# Altium footprint library st-microelectronics.PCBLIB: 49 footprints (part 3 of 4)
Each footprint in its own frame and in the unit in brackets; x right, y up, seen from the top. Pads: shape width x height; smd on the part's side, far side on the other; paste and mask are expansions set on the pad; w line width, h text height; cw(c..) or ccw(c..) is an arc to the next point about the centre after c.
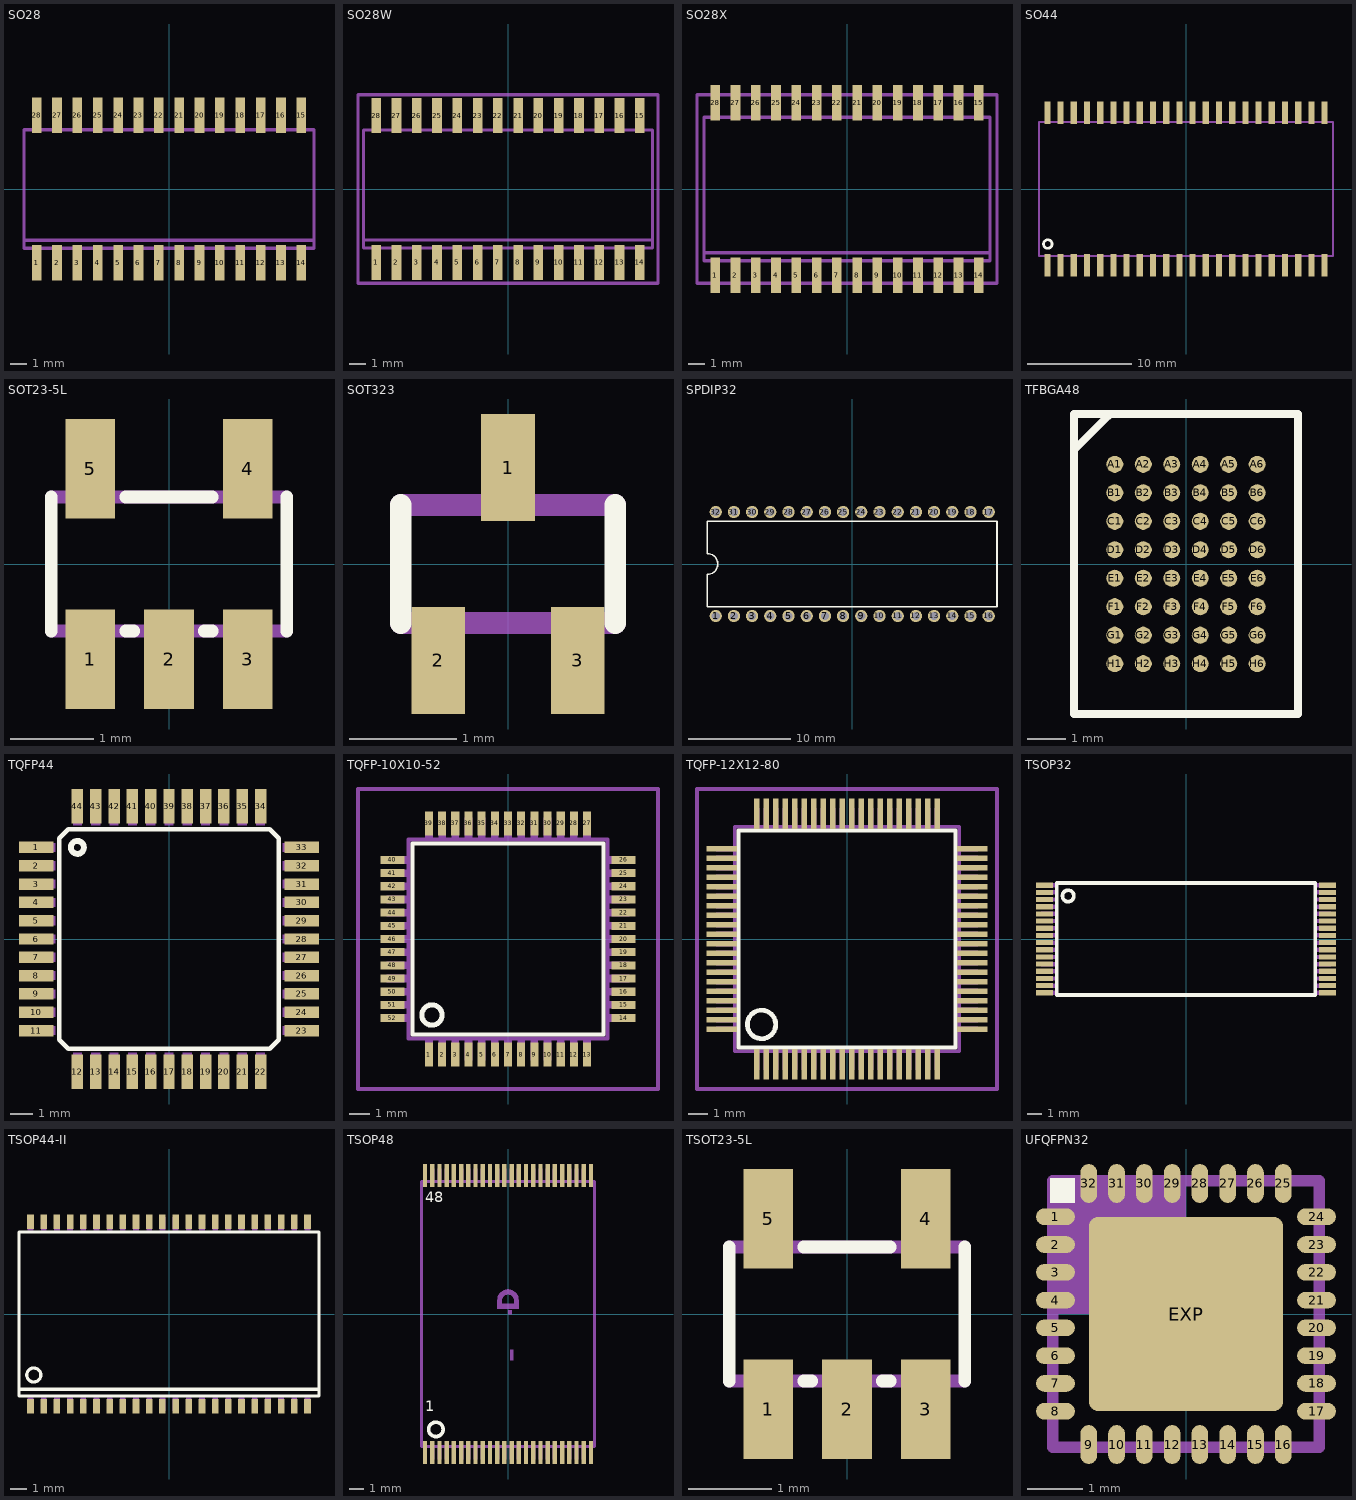
[diagram p2: the footprints below, top view; thin cyan lines are the x and y axes]

## SO28 [mil]
pads (28):
  rect 23.62x86.61 smd: 1(-325,-181.1) 2(-275,-181.1) 3(-225,-181.1) 4(-175,-181.1) 5(-125,-181.1) 6(-75,-181.1) 7(-25,-181.1) 8(25,-181.1) 9(75,-181.1) 10(125,-181.1) 11(175,-181.1) 12(225,-181.1) 13(275,-181.1) 14(325,-181.1) 15(325,181.1) 16(275,181.1) 17(225,181.1) 18(175,181.1) 19(125,181.1) 20(75,181.1) 21(25,181.1) 22(-25,181.1) 23(-75,181.1) 24(-125,181.1) 25(-175,181.1) 26(-225,181.1) 27(-275,181.1) 28(-325,181.1)
Mechanical 16:
  rectangle: -334.65,-209.45 -315.35,-149.61
  rectangle: -284.65,-209.45 -265.35,-149.61
  rectangle: -234.65,-209.45 -215.35,-149.61
  rectangle: -184.65,-209.45 -165.35,-149.61
  rectangle: -134.65,-209.45 -115.35,-149.61
  rectangle: -84.65,-209.45 -65.35,-149.61
  rectangle: -34.65,-209.45 -15.35,-149.61
  rectangle: 15.35,-209.45 34.65,-149.61
  rectangle: 65.35,-209.45 84.65,-149.61
  rectangle: 115.35,-209.45 134.65,-149.61
  rectangle: 165.35,-209.45 184.65,-149.61
  rectangle: 215.35,-209.45 234.65,-149.61
  rectangle: 265.35,-209.45 284.65,-149.61
  rectangle: 315.35,-209.45 334.65,-149.61
  rectangle: 315.35,149.61 334.65,209.45
  rectangle: 265.35,149.61 284.65,209.45
  rectangle: 215.35,149.61 234.65,209.45
  rectangle: 165.35,149.61 184.65,209.45
  rectangle: 115.35,149.61 134.65,209.45
  rectangle: 65.35,149.61 84.65,209.45
  rectangle: 15.35,149.61 34.65,209.45
  rectangle: -34.65,149.61 -15.35,209.45
  rectangle: -84.65,149.61 -65.35,209.45
  rectangle: -134.65,149.61 -115.35,209.45
  rectangle: -184.65,149.61 -165.35,209.45
  rectangle: -234.65,149.61 -215.35,209.45
  rectangle: -284.65,149.61 -265.35,209.45
  rectangle: -334.65,149.61 -315.35,209.45
  lines w8: -356.3,-125.98 -356.3,-145.67 356.3,-145.67 356.3,-125.98 ; -356.3,-125.98 -356.3,145.67 356.3,145.67 356.3,-125.98 ; -356.3,-125.98 356.3,-125.98

## SO28W [mil]
pads (28):
  rect 23.62x86.61 smd: 1(-325,-181.1) 2(-275,-181.1) 3(-225,-181.1) 4(-175,-181.1) 5(-125,-181.1) 6(-75,-181.1) 7(-25,-181.1) 8(25,-181.1) 9(75,-181.1) 10(125,-181.1) 11(175,-181.1) 12(225,-181.1) 13(275,-181.1) 14(325,-181.1) 15(325,181.1) 16(275,181.1) 17(225,181.1) 18(175,181.1) 19(125,181.1) 20(75,181.1) 21(25,181.1) 22(-25,181.1) 23(-75,181.1) 24(-125,181.1) 25(-175,181.1) 26(-225,181.1) 27(-275,181.1) 28(-325,181.1)
Mechanical 16:
  rectangle: -334.65,-209.45 -315.35,-149.61
  rectangle: -284.65,-209.45 -265.35,-149.61
  rectangle: -234.65,-209.45 -215.35,-149.61
  rectangle: -184.65,-209.45 -165.35,-149.61
  rectangle: -134.65,-209.45 -115.35,-149.61
  rectangle: -84.65,-209.45 -65.35,-149.61
  rectangle: -34.65,-209.45 -15.35,-149.61
  rectangle: 15.35,-209.45 34.65,-149.61
  rectangle: 65.35,-209.45 84.65,-149.61
  rectangle: 115.35,-209.45 134.65,-149.61
  rectangle: 165.35,-209.45 184.65,-149.61
  rectangle: 215.35,-209.45 234.65,-149.61
  rectangle: 265.35,-209.45 284.65,-149.61
  rectangle: 315.35,-209.45 334.65,-149.61
  rectangle: 315.35,149.61 334.65,209.45
  rectangle: 265.35,149.61 284.65,209.45
  rectangle: 215.35,149.61 234.65,209.45
  rectangle: 165.35,149.61 184.65,209.45
  rectangle: 115.35,149.61 134.65,209.45
  rectangle: 65.35,149.61 84.65,209.45
  rectangle: 15.35,149.61 34.65,209.45
  rectangle: -34.65,149.61 -15.35,209.45
  rectangle: -84.65,149.61 -65.35,209.45
  rectangle: -134.65,149.61 -115.35,209.45
  rectangle: -184.65,149.61 -165.35,209.45
  rectangle: -234.65,149.61 -215.35,209.45
  rectangle: -284.65,149.61 -265.35,209.45
  rectangle: -334.65,149.61 -315.35,209.45
  lines w8: -356.3,-125.98 -356.3,-145.67 356.3,-145.67 356.3,-125.98 ; -356.3,-125.98 -356.3,145.67 356.3,145.67 356.3,-125.98 ; -356.3,-125.98 356.3,-125.98
Mechanical 27:
  lines w7.87: -369.88,-232.28 369.88,-232.28 369.88,232.28 -369.88,232.28 -369.88,-232.28

## SO28X [mil]
pads (28):
  rect 23.62x86.61 smd: 1(-325,-212.6) 2(-275,-212.6) 3(-225,-212.6) 4(-175,-212.6) 5(-125,-212.6) 6(-75,-212.6) 7(-25,-212.6) 8(25,-212.6) 9(75,-212.6) 10(125,-212.6) 11(175,-212.6) 12(225,-212.6) 13(275,-212.6) 14(325,-212.6) 15(325,212.6) 16(275,212.6) 17(225,212.6) 18(175,212.6) 19(125,212.6) 20(75,212.6) 21(25,212.6) 22(-25,212.6) 23(-75,212.6) 24(-125,212.6) 25(-175,212.6) 26(-225,212.6) 27(-275,212.6) 28(-325,212.6)
Mechanical 16:
  rectangle: -334.65,-240.94 -315.35,-181.1
  rectangle: -284.65,-240.94 -265.35,-181.1
  rectangle: -234.65,-240.94 -215.35,-181.1
  rectangle: -184.65,-240.94 -165.35,-181.1
  rectangle: -134.65,-240.94 -115.35,-181.1
  rectangle: -84.65,-240.94 -65.35,-181.1
  rectangle: -34.65,-240.94 -15.35,-181.1
  rectangle: 15.35,-240.94 34.65,-181.1
  rectangle: 65.35,-240.94 84.65,-181.1
  rectangle: 115.35,-240.94 134.65,-181.1
  rectangle: 165.35,-240.94 184.65,-181.1
  rectangle: 215.35,-240.94 234.65,-181.1
  rectangle: 265.35,-240.94 284.65,-181.1
  rectangle: 315.35,-240.94 334.65,-181.1
  rectangle: 315.35,181.1 334.65,240.94
  rectangle: 265.35,181.1 284.65,240.94
  rectangle: 215.35,181.1 234.65,240.94
  rectangle: 165.35,181.1 184.65,240.94
  rectangle: 115.35,181.1 134.65,240.94
  rectangle: 65.35,181.1 84.65,240.94
  rectangle: 15.35,181.1 34.65,240.94
  rectangle: -34.65,181.1 -15.35,240.94
  rectangle: -84.65,181.1 -65.35,240.94
  rectangle: -134.65,181.1 -115.35,240.94
  rectangle: -184.65,181.1 -165.35,240.94
  rectangle: -234.65,181.1 -215.35,240.94
  rectangle: -284.65,181.1 -265.35,240.94
  rectangle: -334.65,181.1 -315.35,240.94
  lines w8: -352.36,-157.48 -352.36,-177.17 352.36,-177.17 352.36,-157.48 ; -352.36,-157.48 -352.36,177.17 352.36,177.17 352.36,-157.48 ; -352.36,-157.48 352.36,-157.48
Mechanical 27:
  lines w7.87: -369.88,-232.28 369.88,-232.28 369.88,232.28 -369.88,232.28 -369.88,-232.28

## SO44 [mil]
pads (44):
  rect 23.62x86.61 smd: 1(-525,-288.98) 2(-475,-288.98) 3(-425,-288.98) 4(-375,-288.98) 5(-325,-288.98) 6(-275,-288.98) 7(-225,-288.98) 8(-175,-288.98) 9(-125,-288.98) 10(-75,-288.98) 11(-25,-288.98) 12(25,-288.98) 13(75,-288.98) 14(125,-288.98) 15(175,-288.98) 16(225,-288.98) 17(275,-288.98) 18(325,-288.98) 19(375,-288.98) 20(425,-288.98) 21(475,-288.98) 22(525,-288.98) 23(525,288.98) 24(475,288.98) 25(425,288.98) 26(375,288.98) 27(325,288.98) 28(275,288.98) 29(225,288.98) 30(175,288.98) 31(125,288.98) 32(75,288.98) 33(25,288.98) 34(-25,288.98) 35(-75,288.98) 36(-125,288.98) 37(-175,288.98) 38(-225,288.98) 39(-275,288.98) 40(-325,288.98) 41(-375,288.98) 42(-425,288.98) 43(-475,288.98) 44(-525,288.98)
Top Overlay:
  circle w10: c-523.62,-208.66 r16.23
Mechanical 16:
  rectangle: -534.65,-317.32 -515.35,-257.48
  rectangle: -484.65,-317.32 -465.35,-257.48
  rectangle: -434.65,-317.32 -415.35,-257.48
  rectangle: -384.65,-317.32 -365.35,-257.48
  rectangle: -334.65,-317.32 -315.35,-257.48
  rectangle: -284.65,-317.32 -265.35,-257.48
  rectangle: -234.65,-317.32 -215.35,-257.48
  rectangle: -184.65,-317.32 -165.35,-257.48
  rectangle: -134.65,-317.32 -115.35,-257.48
  rectangle: -84.65,-317.32 -65.35,-257.48
  rectangle: -34.65,-317.32 -15.35,-257.48
  rectangle: 15.35,-317.32 34.65,-257.48
  rectangle: 65.35,-317.32 84.65,-257.48
  rectangle: 115.35,-317.32 134.65,-257.48
  rectangle: 165.35,-317.32 184.65,-257.48
  rectangle: 215.35,-317.32 234.65,-257.48
  rectangle: 265.35,-317.32 284.65,-257.48
  rectangle: 315.35,-317.32 334.65,-257.48
  rectangle: 365.35,-317.32 384.65,-257.48
  rectangle: 415.35,-317.32 434.65,-257.48
  rectangle: 465.35,-317.32 484.65,-257.48
  rectangle: 515.35,-317.32 534.65,-257.48
  rectangle: 515.35,257.48 534.65,317.32
  rectangle: 465.35,257.48 484.65,317.32
  rectangle: 415.35,257.48 434.65,317.32
  rectangle: 365.35,257.48 384.65,317.32
  rectangle: 315.35,257.48 334.65,317.32
  rectangle: 265.35,257.48 284.65,317.32
  rectangle: 215.35,257.48 234.65,317.32
  rectangle: 165.35,257.48 184.65,317.32
  rectangle: 115.35,257.48 134.65,317.32
  rectangle: 65.35,257.48 84.65,317.32
  rectangle: 15.35,257.48 34.65,317.32
  rectangle: -34.65,257.48 -15.35,317.32
  rectangle: -84.65,257.48 -65.35,317.32
  rectangle: -134.65,257.48 -115.35,317.32
  rectangle: -184.65,257.48 -165.35,317.32
  rectangle: -234.65,257.48 -215.35,317.32
  rectangle: -284.65,257.48 -265.35,317.32
  rectangle: -334.65,257.48 -315.35,317.32
  rectangle: -384.65,257.48 -365.35,317.32
  rectangle: -434.65,257.48 -415.35,317.32
  rectangle: -484.65,257.48 -465.35,317.32
  rectangle: -534.65,257.48 -515.35,317.32
  lines w8: -556.3,-253.54 556.3,-253.54 556.3,253.54 -556.3,253.54 -556.3,-253.54

## SOT23-5L [mil]
pads (5):
  rect 23.62x47.24 smd: 1(-37.4,-45.28) 2(0,-45.28) 3(37.4,-45.28) 4(37.4,45.28) 5(-37.4,45.28)
Top Overlay:
  lines w6: -55.98,-31.89 -55.98,31.89 ; -20.55,-31.89 -16.85,-31.89 ; -20.55,31.89 20.55,31.89 ; 16.85,-31.89 20.55,-31.89 ; 55.98,-31.89 55.98,31.89
Top Paste:
  rectangle: -47.74,-67.42 -27.07,-23.13
  rectangle: -10.33,-67.42 10.33,-23.13
  rectangle: 27.07,-67.42 47.74,-23.13
  region: 47.74,67.42 27.07,67.42 27.07,23.13 47.74,23.13
  region: -27.07,67.42 -47.74,67.42 -47.74,23.13 -27.07,23.13
Top Solder:
  rectangle: -50.69,-71.36 -24.11,-19.69
  rectangle: -13.29,-71.36 13.29,-19.69
  rectangle: 24.11,-71.36 50.69,-19.69
  region: 50.69,71.36 24.11,71.36 24.11,19.69 50.69,19.69
  region: -24.11,71.36 -50.69,71.36 -50.69,19.69 -24.11,19.69
Mechanical 16:
  rectangle: -47.24,-55.12 -27.56,-33.46
  rectangle: -9.84,-55.12 9.84,-33.46
  rectangle: 27.56,-55.12 47.24,-33.46
  rectangle: 27.56,33.46 47.24,55.12
  rectangle: -47.24,33.46 -27.56,55.12
  lines w6: -55.98,-31.89 55.98,-31.89 ; -55.98,31.89 55.98,31.89

## SOT323 [mm]
pads (3):
  rect 0.5x1 smd: 1(0,0.9) 2(-0.65,-0.9) 3(0.65,-0.9)
Top Overlay:
  lines w0.203: -1,-0.55 -1,0.55 ; 1,-0.55 1,0.55
Mechanical 16:
  rectangle: -0.15,0.65 0.15,1.2
  rectangle: -0.8,-1.2 -0.5,-0.65
  rectangle: 0.5,-1.2 0.8,-0.65
  lines w0.203: -1,-0.55 1,-0.55 ; -1,0.55 1,0.55

## SPDIP32 [mil]
pads (32):
  round 47.24 hole 31.5: 1(-525,-200) 2(-455,-200) 3(-385,-200) 4(-315,-200) 5(-245,-200) 6(-175,-200) 7(-105,-200) 8(-35,-200) 9(35,-200) 10(105,-200) 11(175,-200) 12(245,-200) 13(315,-200) 14(385,-200) 15(455,-200) 16(525,-200) 17(525,200) 18(455,200) 19(385,200) 20(315,200) 21(245,200) 22(175,200) 23(105,200) 24(35,200) 25(-35,200) 26(-105,200) 27(-175,200) 28(-245,200) 29(-315,200) 30(-385,200) 31(-455,200) 32(-525,200)
Top Overlay:
  lines w6: -556.97,-165 556.97,-165 556.97,165 -556.97,165 -556.97,40 cw(c-556.97,0) -556.97,-40 -556.97,-165

## TFBGA48 [mil]
pads (48):
  rrect100% 17.72x17.72 smd: A1(-73.82,103.35) A2(-44.29,103.35) A3(-14.76,103.35) A4(14.76,103.35) A5(44.29,103.35) A6(73.82,103.35) B1(-73.82,73.82) B2(-44.29,73.82) B3(-14.76,73.82) B4(14.76,73.82) B5(44.29,73.82) B6(73.82,73.82) C1(-73.82,44.29) C2(-44.29,44.29) C3(-14.76,44.29) C4(14.76,44.29) C5(44.29,44.29) C6(73.82,44.29) D1(-73.82,14.76) D2(-44.29,14.76) D3(-14.76,14.76) D4(14.76,14.76) D5(44.29,14.76) D6(73.82,14.76) E1(-73.82,-14.76) E2(-44.29,-14.76) E3(-14.76,-14.76) E4(14.76,-14.76) E5(44.29,-14.76) E6(73.82,-14.76) F1(-73.82,-44.29) F2(-44.29,-44.29) F3(-14.76,-44.29) F4(14.76,-44.29) F5(44.29,-44.29) F6(73.82,-44.29) G1(-73.82,-73.82) G2(-44.29,-73.82) G3(-14.76,-73.82) G4(14.76,-73.82) G5(44.29,-73.82) G6(73.82,-73.82) H1(-73.82,-103.35) H2(-44.29,-103.35) H3(-14.76,-103.35) H4(14.76,-103.35) H5(44.29,-103.35) H6(73.82,-103.35)
Top Overlay:
  lines w8: -114.17,120.08 -80.71,153.54 ; -116.14,-155.51 116.14,-155.51 116.14,155.51 -116.14,155.51 -116.14,-155.51
Top Solder:
  circle w0: c-73.82,103.35 r7.87
  circle w0: c-73.82,73.82 r7.87
  circle w0: c-73.82,44.29 r7.87
  circle w0: c-73.82,14.76 r7.87
  circle w0: c-73.82,-14.76 r7.87
  circle w0: c-73.82,-44.29 r7.87
  circle w0: c-73.82,-73.82 r7.87
  circle w0: c-73.82,-103.35 r7.87
  circle w0: c-44.29,103.35 r7.87
  circle w0: c-44.29,73.82 r7.87
  circle w0: c-44.29,44.29 r7.87
  circle w0: c-44.29,14.76 r7.87
  circle w0: c-44.29,-14.76 r7.87
  circle w0: c-44.29,-44.29 r7.87
  circle w0: c-44.29,-73.82 r7.87
  circle w0: c-44.29,-103.35 r7.87
  circle w0: c-14.76,103.35 r7.87
  circle w0: c-14.76,73.82 r7.87
  circle w0: c-14.76,44.29 r7.87
  circle w0: c-14.76,14.76 r7.87
  circle w0: c-14.76,-14.76 r7.87
  circle w0: c-14.76,-44.29 r7.87
  circle w0: c-14.76,-73.82 r7.87
  circle w0: c-14.76,-103.35 r7.87
  circle w0: c14.76,103.35 r7.87
  circle w0: c14.76,73.82 r7.87
  circle w0: c14.76,44.29 r7.87
  circle w0: c14.76,14.76 r7.87
  circle w0: c14.76,-14.76 r7.87
  circle w0: c14.76,-44.29 r7.87
  circle w0: c14.76,-73.82 r7.87
  circle w0: c14.76,-103.35 r7.87
  circle w0: c44.29,103.35 r7.87
  circle w0: c44.29,73.82 r7.87
  circle w0: c44.29,44.29 r7.87
  circle w0: c44.29,14.76 r7.87
  circle w0: c44.29,-14.76 r7.87
  circle w0: c44.29,-44.29 r7.87
  circle w0: c44.29,-73.82 r7.87
  circle w0: c44.29,-103.35 r7.87
  circle w0: c73.82,103.35 r7.87
  circle w0: c73.82,73.82 r7.87
  circle w0: c73.82,44.29 r7.87
  circle w0: c73.82,14.76 r7.87
  circle w0: c73.82,-14.76 r7.87
  circle w0: c73.82,-44.29 r7.87
  circle w0: c73.82,-73.82 r7.87
  circle w0: c73.82,-103.35 r7.87

## TQFP44 [mil]
pads (44):
  rect 59.06x19.69 smd: 1(-228.35,157.48) 2(-228.35,125.98) 3(-228.35,94.49) 4(-228.35,62.99) 5(-228.35,31.5) 6(-228.35,0) 7(-228.35,-31.5) 8(-228.35,-62.99) 9(-228.35,-94.49) 10(-228.35,-125.98) 11(-228.35,-157.48) 23(228.35,-157.48) 24(228.35,-125.98) 25(228.35,-94.49) 26(228.35,-62.99) 27(228.35,-31.5) 28(228.35,0) 29(228.35,31.5) 30(228.35,62.99) 31(228.35,94.49) 32(228.35,125.98) 33(228.35,157.48)
  rect 19.69x59.06 smd: 12(-157.48,-228.35) 13(-125.98,-228.35) 14(-94.49,-228.35) 15(-62.99,-228.35) 16(-31.5,-228.35) 17(0,-228.35) 18(31.5,-228.35) 19(62.99,-228.35) 20(94.49,-228.35) 21(125.98,-228.35) 22(157.48,-228.35) 34(157.48,228.35) 35(125.98,228.35) 36(94.49,228.35) 37(62.99,228.35) 38(31.5,228.35) 39(0,228.35) 40(-31.5,228.35) 41(-62.99,228.35) 42(-94.49,228.35) 43(-125.98,228.35) 44(-157.48,228.35)
Top Overlay:
  circle w10: c-157.48,157.48 r11.13
  lines w8: -188.98,-173.23 -173.23,-188.98 173.23,-188.98 188.98,-173.23 188.98,173.23 173.23,188.98 -173.23,188.98 -188.98,173.23 -188.98,-173.23
Mechanical 16:
  rectangle: -240.16,149.61 -194.88,165.35
  rectangle: -240.16,118.11 -194.88,133.86
  rectangle: -240.16,86.61 -194.88,102.36
  rectangle: -240.16,55.12 -194.88,70.87
  rectangle: -240.16,23.62 -194.88,39.37
  rectangle: -240.16,-7.87 -194.88,7.87
  rectangle: -240.16,-39.37 -194.88,-23.62
  rectangle: -240.16,-70.87 -194.88,-55.12
  rectangle: -240.16,-102.36 -194.88,-86.61
  rectangle: -240.16,-133.86 -194.88,-118.11
  rectangle: -240.16,-165.35 -194.88,-149.61
  rectangle: -165.35,-240.16 -149.61,-194.88
  rectangle: -133.86,-240.16 -118.11,-194.88
  rectangle: -102.36,-240.16 -86.61,-194.88
  rectangle: -70.87,-240.16 -55.12,-194.88
  rectangle: -39.37,-240.16 -23.62,-194.88
  rectangle: -7.87,-240.16 7.87,-194.88
  rectangle: 23.62,-240.16 39.37,-194.88
  rectangle: 55.12,-240.16 70.87,-194.88
  rectangle: 86.61,-240.16 102.36,-194.88
  rectangle: 118.11,-240.16 133.86,-194.88
  rectangle: 149.61,-240.16 165.35,-194.88
  rectangle: 194.88,-165.35 240.16,-149.61
  rectangle: 194.88,-133.86 240.16,-118.11
  rectangle: 194.88,-102.36 240.16,-86.61
  rectangle: 194.88,-70.87 240.16,-55.12
  rectangle: 194.88,-39.37 240.16,-23.62
  rectangle: 194.88,-7.87 240.16,7.87
  rectangle: 194.88,23.62 240.16,39.37
  rectangle: 194.88,55.12 240.16,70.87
  rectangle: 194.88,86.61 240.16,102.36
  rectangle: 194.88,118.11 240.16,133.86
  rectangle: 194.88,149.61 240.16,165.35
  rectangle: 149.61,194.88 165.35,240.16
  rectangle: 118.11,194.88 133.86,240.16
  rectangle: 86.61,194.88 102.36,240.16
  rectangle: 55.12,194.88 70.87,240.16
  rectangle: 23.62,194.88 39.37,240.16
  rectangle: -7.87,194.88 7.87,240.16
  rectangle: -39.37,194.88 -23.62,240.16
  rectangle: -70.87,194.88 -55.12,240.16
  rectangle: -102.36,194.88 -86.61,240.16
  rectangle: -133.86,194.88 -118.11,240.16
  rectangle: -165.35,194.88 -149.61,240.16

## TQFP-10X10-52 [mm]
pads (52):
  rect 0.4x1.2 smd: 1(-3.9,-5.7) 2(-3.25,-5.7) 3(-2.6,-5.7) 4(-1.95,-5.7) 5(-1.3,-5.7) 6(-0.65,-5.7) 7(0,-5.7) 8(0.65,-5.7) 9(1.3,-5.7) 10(1.95,-5.7) 11(2.6,-5.7) 12(3.25,-5.7) 13(3.9,-5.7) 27(3.9,5.7) 28(3.25,5.7) 29(2.6,5.7) 30(1.95,5.7) 31(1.3,5.7) 32(0.65,5.7) 33(0,5.7) 34(-0.65,5.7) 35(-1.3,5.7) 36(-1.95,5.7) 37(-2.6,5.7) 38(-3.25,5.7) 39(-3.9,5.7)
  rect 1.2x0.4 smd: 14(5.7,-3.9) 15(5.7,-3.25) 16(5.7,-2.6) 17(5.7,-1.95) 18(5.7,-1.3) 19(5.7,-0.65) 20(5.7,0) 21(5.7,0.65) 22(5.7,1.3) 23(5.7,1.95) 24(5.7,2.6) 25(5.7,3.25) 26(5.7,3.9) 40(-5.7,3.9) 41(-5.7,3.25) 42(-5.7,2.6) 43(-5.7,1.95) 44(-5.7,1.3) 45(-5.7,0.65) 46(-5.7,0) 47(-5.7,-0.65) 48(-5.7,-1.3) 49(-5.7,-1.95) 50(-5.7,-2.6) 51(-5.7,-3.25) 52(-5.7,-3.9)
Top Overlay:
  circle w0.254: c-3.75,-3.75 r0.5
  lines w0.203: -4.72,-4.71 4.71,-4.71 4.71,4.71 -4.72,4.71 -4.72,-4.71
Mechanical 16:
  rectangle: -6,3.71 -4.95,4.09
  rectangle: -6,3.06 -4.95,3.44
  rectangle: -6,2.41 -4.95,2.79
  rectangle: -6,1.76 -4.95,2.14
  rectangle: -6,1.11 -4.95,1.49
  rectangle: -6,0.46 -4.95,0.84
  rectangle: -6,-0.19 -4.95,0.19
  rectangle: -6,-0.84 -4.95,-0.46
  rectangle: -6,-1.49 -4.95,-1.11
  rectangle: -6,-2.14 -4.95,-1.76
  rectangle: -6,-2.79 -4.95,-2.41
  rectangle: -6,-3.44 -4.95,-3.06
  rectangle: -6,-4.09 -4.95,-3.71
  region: -3.71,-6 -3.71,-4.95 -4.09,-4.95 -4.09,-6
  region: -3.06,-6 -3.06,-4.95 -3.44,-4.95 -3.44,-6
  region: -2.41,-6 -2.41,-4.95 -2.79,-4.95 -2.79,-6
  region: -1.76,-6 -1.76,-4.95 -2.14,-4.95 -2.14,-6
  region: -1.11,-6 -1.11,-4.95 -1.49,-4.95 -1.49,-6
  region: -0.46,-6 -0.46,-4.95 -0.84,-4.95 -0.84,-6
  region: 0.19,-6 0.19,-4.95 -0.19,-4.95 -0.19,-6
  region: 0.84,-6 0.84,-4.95 0.46,-4.95 0.46,-6
  region: 1.49,-6 1.49,-4.95 1.11,-4.95 1.11,-6
  region: 2.14,-6 2.14,-4.95 1.76,-4.95 1.76,-6
  region: 2.79,-6 2.79,-4.95 2.41,-4.95 2.41,-6
  region: 3.44,-6 3.44,-4.95 3.06,-4.95 3.06,-6
  region: 4.09,-6 4.09,-4.95 3.71,-4.95 3.71,-6
  region: 6,-3.71 4.95,-3.71 4.95,-4.09 6,-4.09
  region: 6,-3.06 4.95,-3.06 4.95,-3.44 6,-3.44
  region: 6,-2.41 4.95,-2.41 4.95,-2.79 6,-2.79
  region: 6,-1.76 4.95,-1.76 4.95,-2.14 6,-2.14
  region: 6,-1.11 4.95,-1.11 4.95,-1.49 6,-1.49
  region: 6,-0.46 4.95,-0.46 4.95,-0.84 6,-0.84
  region: 6,0.19 4.95,0.19 4.95,-0.19 6,-0.19
  region: 6,0.84 4.95,0.84 4.95,0.46 6,0.46
  region: 6,1.49 4.95,1.49 4.95,1.11 6,1.11
  region: 6,2.14 4.95,2.14 4.95,1.76 6,1.76
  region: 6,2.79 4.95,2.79 4.95,2.41 6,2.41
  region: 6,3.44 4.95,3.44 4.95,3.06 6,3.06
  region: 6,4.09 4.95,4.09 4.95,3.71 6,3.71
  region: 3.71,6 3.71,4.95 4.09,4.95 4.09,6
  region: 3.06,6 3.06,4.95 3.44,4.95 3.44,6
  region: 2.41,6 2.41,4.95 2.79,4.95 2.79,6
  region: 1.76,6 1.76,4.95 2.14,4.95 2.14,6
  region: 1.11,6 1.11,4.95 1.49,4.95 1.49,6
  region: 0.46,6 0.46,4.95 0.84,4.95 0.84,6
  region: -0.19,6 -0.19,4.95 0.19,4.95 0.19,6
  region: -0.84,6 -0.84,4.95 -0.46,4.95 -0.46,6
  region: -1.49,6 -1.49,4.95 -1.11,4.95 -1.11,6
  region: -2.14,6 -2.14,4.95 -1.76,4.95 -1.76,6
  region: -2.79,6 -2.79,4.95 -2.41,4.95 -2.41,6
  region: -3.44,6 -3.44,4.95 -3.06,4.95 -3.06,6
  region: -4.09,6 -4.09,4.95 -3.71,4.95 -3.71,6
  lines w0.203: -4.91,-4.91 4.91,-4.91 4.91,4.91 -4.91,4.91 -4.91,-4.91
Mechanical 27:
  lines w0.2: -7.4,-7.4 -7.4,7.4 7.4,7.4 7.4,-7.4 -7.4,-7.4

## TQFP-12X12-80 [mil]
pads (80):
  rect 11.81x62.99 smd: 1(-187.01,-259.84) 2(-167.32,-259.84) 3(-147.64,-259.84) 4(-127.95,-259.84) 5(-108.27,-259.84) 6(-88.58,-259.84) 7(-68.9,-259.84) 8(-49.21,-259.84) 9(-29.53,-259.84) 10(-9.84,-259.84) 11(9.84,-259.84) 12(29.53,-259.84) 13(49.21,-259.84) 14(68.9,-259.84) 15(88.58,-259.84) 16(108.27,-259.84) 17(127.95,-259.84) 18(147.64,-259.84) 19(167.32,-259.84) 20(187.01,-259.84) 41(187.01,259.84) 42(167.32,259.84) 43(147.64,259.84) 44(127.95,259.84) 45(108.27,259.84) 46(88.58,259.84) 47(68.9,259.84) 48(49.21,259.84) 49(29.53,259.84) 50(9.84,259.84) 51(-9.84,259.84) 52(-29.53,259.84) 53(-49.21,259.84) 54(-68.9,259.84) 55(-88.58,259.84) 56(-108.27,259.84) 57(-127.95,259.84) 58(-147.64,259.84) 59(-167.32,259.84) 60(-187.01,259.84)
  rect 62.99x11.81 smd: 21(259.84,-187.01) 22(259.84,-167.32) 23(259.84,-147.64) 24(259.84,-127.95) 25(259.84,-108.27) 26(259.84,-88.58) 27(259.84,-68.9) 28(259.84,-49.21) 29(259.84,-29.53) 30(259.84,-9.84) 31(259.84,9.84) 32(259.84,29.53) 33(259.84,49.21) 34(259.84,68.9) 35(259.84,88.58) 36(259.84,108.27) 37(259.84,127.95) 38(259.84,147.64) 39(259.84,167.32) 40(259.84,187.01) 61(-259.84,187.01) 62(-259.84,167.32) 63(-259.84,147.64) 64(-259.84,127.95) 65(-259.84,108.27) 66(-259.84,88.58) 67(-259.84,68.9) 68(-259.84,49.21) 69(-259.84,29.53) 70(-259.84,9.84) 71(-259.84,-9.84) 72(-259.84,-29.53) 73(-259.84,-49.21) 74(-259.84,-68.9) 75(-259.84,-88.58) 76(-259.84,-108.27) 77(-259.84,-127.95) 78(-259.84,-147.64) 79(-259.84,-167.32) 80(-259.84,-187.01)
Top Overlay:
  circle w10: c-177.17,-177.17 r29.53
  lines w8: -225.2,-224.8 224.8,-224.8 224.8,224.8 -225.2,224.8 -225.2,-224.8
Mechanical 16:
  rectangle: -192.91,-271.65 -181.1,-234.25
  rectangle: -173.23,-271.65 -161.42,-234.25
  rectangle: -153.54,-271.65 -141.73,-234.25
  rectangle: -133.86,-271.65 -122.05,-234.25
  rectangle: -114.17,-271.65 -102.36,-234.25
  rectangle: -94.49,-271.65 -82.68,-234.25
  rectangle: -74.8,-271.65 -62.99,-234.25
  rectangle: -55.12,-271.65 -43.31,-234.25
  rectangle: -35.43,-271.65 -23.62,-234.25
  rectangle: -15.75,-271.65 -3.94,-234.25
  rectangle: 3.94,-271.65 15.75,-234.25
  rectangle: 23.62,-271.65 35.43,-234.25
  rectangle: 43.31,-271.65 55.12,-234.25
  rectangle: 62.99,-271.65 74.8,-234.25
  rectangle: 82.68,-271.65 94.49,-234.25
  rectangle: 102.36,-271.65 114.17,-234.25
  rectangle: 122.05,-271.65 133.86,-234.25
  rectangle: 141.73,-271.65 153.54,-234.25
  rectangle: 161.42,-271.65 173.23,-234.25
  rectangle: 181.1,-271.65 192.91,-234.25
  rectangle: 234.25,-192.91 271.65,-181.1
  rectangle: 234.25,-173.23 271.65,-161.42
  rectangle: 234.25,-153.54 271.65,-141.73
  rectangle: 234.25,-133.86 271.65,-122.05
  rectangle: 234.25,-114.17 271.65,-102.36
  rectangle: 234.25,-94.49 271.65,-82.68
  rectangle: 234.25,-74.8 271.65,-62.99
  rectangle: 234.25,-55.12 271.65,-43.31
  rectangle: 234.25,-35.43 271.65,-23.62
  rectangle: 234.25,-15.75 271.65,-3.94
  rectangle: 234.25,3.94 271.65,15.75
  rectangle: 234.25,23.62 271.65,35.43
  rectangle: 234.25,43.31 271.65,55.12
  rectangle: 234.25,62.99 271.65,74.8
  rectangle: 234.25,82.68 271.65,94.49
  rectangle: 234.25,102.36 271.65,114.17
  rectangle: 234.25,122.05 271.65,133.86
  rectangle: 234.25,141.73 271.65,153.54
  rectangle: 234.25,161.42 271.65,173.23
  rectangle: 234.25,181.1 271.65,192.91
  rectangle: 181.1,234.25 192.91,271.65
  rectangle: 161.42,234.25 173.23,271.65
  rectangle: 141.73,234.25 153.54,271.65
  rectangle: 122.05,234.25 133.86,271.65
  rectangle: 102.36,234.25 114.17,271.65
  rectangle: 82.68,234.25 94.49,271.65
  rectangle: 62.99,234.25 74.8,271.65
  rectangle: 43.31,234.25 55.12,271.65
  rectangle: 23.62,234.25 35.43,271.65
  rectangle: 3.94,234.25 15.75,271.65
  rectangle: -15.75,234.25 -3.94,271.65
  rectangle: -35.43,234.25 -23.62,271.65
  rectangle: -55.12,234.25 -43.31,271.65
  rectangle: -74.8,234.25 -62.99,271.65
  rectangle: -94.49,234.25 -82.68,271.65
  rectangle: -114.17,234.25 -102.36,271.65
  rectangle: -133.86,234.25 -122.05,271.65
  rectangle: -153.54,234.25 -141.73,271.65
  rectangle: -173.23,234.25 -161.42,271.65
  rectangle: -192.91,234.25 -181.1,271.65
  rectangle: -271.65,181.1 -234.25,192.91
  rectangle: -271.65,161.42 -234.25,173.23
  rectangle: -271.65,141.73 -234.25,153.54
  rectangle: -271.65,122.05 -234.25,133.86
  rectangle: -271.65,102.36 -234.25,114.17
  rectangle: -271.65,82.68 -234.25,94.49
  rectangle: -271.65,62.99 -234.25,74.8
  rectangle: -271.65,43.31 -234.25,55.12
  rectangle: -271.65,23.62 -234.25,35.43
  rectangle: -271.65,3.94 -234.25,15.75
  rectangle: -271.65,-15.75 -234.25,-3.94
  rectangle: -271.65,-35.43 -234.25,-23.62
  rectangle: -271.65,-55.12 -234.25,-43.31
  rectangle: -271.65,-74.8 -234.25,-62.99
  rectangle: -271.65,-94.49 -234.25,-82.68
  rectangle: -271.65,-114.17 -234.25,-102.36
  rectangle: -271.65,-133.86 -234.25,-122.05
  rectangle: -271.65,-153.54 -234.25,-141.73
  rectangle: -271.65,-173.23 -234.25,-161.42
  rectangle: -271.65,-192.91 -234.25,-181.1
  lines w8: -232.68,-232.68 232.68,-232.68 232.68,232.68 -232.68,232.68 -232.68,-232.68
Mechanical 27:
  lines w7.87: -311.02,-311.02 -311.02,311.02 311.02,311.02 311.02,-311.02 -311.02,-311.02

## TSOP32 [mil]
pads (32):
  rect 47.24x14.17 smd: 1(-387.8,147.64) 2(-387.8,127.95) 3(-387.8,108.27) 4(-387.8,88.58) 5(-387.8,68.9) 6(-387.8,49.21) 7(-387.8,29.53) 8(-387.8,9.84) 9(-387.8,-9.84) 10(-387.8,-29.53) 11(-387.8,-49.21) 12(-387.8,-68.9) 13(-387.8,-88.58) 14(-387.8,-108.27) 15(-387.8,-127.95) 16(-387.8,-147.64) 17(387.8,-147.64) 18(387.8,-127.95) 19(387.8,-108.27) 20(387.8,-88.58) 21(387.8,-68.9) 22(387.8,-49.21) 23(387.8,-29.53) 24(387.8,-9.84) 25(387.8,9.84) 26(387.8,29.53) 27(387.8,49.21) 28(387.8,68.9) 29(387.8,88.58) 30(387.8,108.27) 31(387.8,127.95) 32(387.8,147.64)
Top Overlay:
  circle w10: c-323.23,118.11 r15.75
  lines w10: -354.33,-153.54 354.33,-153.54 354.33,153.54 -354.33,153.54 -354.33,-153.54
Mechanical 16:
  rectangle: -398.02,141.64 -356.02,153.64
  rectangle: -398.02,121.95 -356.02,133.95
  rectangle: -398.02,102.27 -356.02,114.27
  rectangle: -398.02,82.58 -356.02,94.58
  rectangle: -398.02,62.9 -356.02,74.9
  rectangle: -398.02,43.21 -356.02,55.21
  rectangle: -398.02,23.53 -356.02,35.53
  rectangle: -398.02,3.84 -356.02,15.84
  rectangle: -398.02,-15.84 -356.02,-3.84
  rectangle: -398.02,-35.53 -356.02,-23.53
  rectangle: -398.02,-55.21 -356.02,-43.21
  rectangle: -398.02,-74.9 -356.02,-62.9
  rectangle: -398.02,-94.58 -356.02,-82.58
  rectangle: -398.02,-114.27 -356.02,-102.27
  rectangle: -398.02,-133.95 -356.02,-121.95
  rectangle: -398.02,-153.64 -356.02,-141.64
  rectangle: 356.02,-153.64 398.02,-141.64
  rectangle: 356.02,-133.95 398.02,-121.95
  rectangle: 356.02,-114.27 398.02,-102.27
  rectangle: 356.02,-94.58 398.02,-82.58
  rectangle: 356.02,-74.9 398.02,-62.9
  rectangle: 356.02,-55.21 398.02,-43.21
  rectangle: 356.02,-35.53 398.02,-23.53
  rectangle: 356.02,-15.84 398.02,-3.84
  rectangle: 356.02,3.84 398.02,15.84
  rectangle: 356.02,23.53 398.02,35.53
  rectangle: 356.02,43.21 398.02,55.21
  rectangle: 356.02,62.9 398.02,74.9
  rectangle: 356.02,82.58 398.02,94.58
  rectangle: 356.02,102.27 398.02,114.27
  rectangle: 356.02,121.95 398.02,133.95
  rectangle: 356.02,141.64 398.02,153.64

## TSOP44-II [mm]
pads (44):
  rect 0.4x0.9 smd: 1(-8.4,-5.6) 2(-7.6,-5.6) 3(-6.8,-5.6) 4(-6,-5.6) 5(-5.2,-5.6) 6(-4.4,-5.6) 7(-3.6,-5.6) 8(-2.8,-5.6) 9(-2,-5.6) 10(-1.2,-5.6) 11(-0.4,-5.6) 12(0.4,-5.6) 13(1.2,-5.6) 14(2,-5.6) 15(2.8,-5.6) 16(3.6,-5.6) 17(4.4,-5.6) 18(5.2,-5.6) 19(6,-5.6) 20(6.8,-5.6) 21(7.6,-5.6) 22(8.4,-5.6) 23(8.4,5.6) 24(7.6,5.6) 25(6.8,5.6) 26(6,5.6) 27(5.2,5.6) 28(4.4,5.6) 29(3.6,5.6) 30(2.8,5.6) 31(2,5.6) 32(1.2,5.6) 33(0.4,5.6) 34(-0.4,5.6) 35(-1.2,5.6) 36(-2,5.6) 37(-2.8,5.6) 38(-3.6,5.6) 39(-4.4,5.6) 40(-5.2,5.6) 41(-6,5.6) 42(-6.8,5.6) 43(-7.6,5.6) 44(-8.4,5.6)
Top Overlay:
  circle w0.203: c-8.2,-3.7 r0.425
  lines w0.203: -9.1,-4.575 -9.1,4.975 9.1,4.975 9.1,-4.575 ; -9.1,-4.575 -9.1,-4.975 9.1,-4.975 9.1,-4.575 ; -9.1,-4.575 9.1,-4.575
Mechanical 16:
  rectangle: -8.575,-5.875 -8.225,-5.075
  rectangle: -7.775,-5.875 -7.425,-5.075
  rectangle: -6.975,-5.875 -6.625,-5.075
  rectangle: -6.175,-5.875 -5.825,-5.075
  rectangle: -5.375,-5.875 -5.025,-5.075
  rectangle: -4.575,-5.875 -4.225,-5.075
  rectangle: -3.775,-5.875 -3.425,-5.075
  rectangle: -2.975,-5.875 -2.625,-5.075
  rectangle: -2.175,-5.875 -1.825,-5.075
  rectangle: -1.375,-5.875 -1.025,-5.075
  rectangle: -0.575,-5.875 -0.225,-5.075
  rectangle: 0.225,-5.875 0.575,-5.075
  rectangle: 1.025,-5.875 1.375,-5.075
  rectangle: 1.825,-5.875 2.175,-5.075
  rectangle: 2.625,-5.875 2.975,-5.075
  rectangle: 3.425,-5.875 3.775,-5.075
  rectangle: 4.225,-5.875 4.575,-5.075
  rectangle: 5.025,-5.875 5.375,-5.075
  rectangle: 5.825,-5.875 6.175,-5.075
  rectangle: 6.625,-5.875 6.975,-5.075
  rectangle: 7.425,-5.875 7.775,-5.075
  rectangle: 8.225,-5.875 8.575,-5.075
  region: 8.575,5.875 8.225,5.875 8.225,5.075 8.575,5.075
  region: 7.775,5.875 7.425,5.875 7.425,5.075 7.775,5.075
  region: 6.975,5.875 6.625,5.875 6.625,5.075 6.975,5.075
  region: 6.175,5.875 5.825,5.875 5.825,5.075 6.175,5.075
  region: 5.375,5.875 5.025,5.875 5.025,5.075 5.375,5.075
  region: 4.575,5.875 4.225,5.875 4.225,5.075 4.575,5.075
  region: 3.775,5.875 3.425,5.875 3.425,5.075 3.775,5.075
  region: 2.975,5.875 2.625,5.875 2.625,5.075 2.975,5.075
  region: 2.175,5.875 1.825,5.875 1.825,5.075 2.175,5.075
  region: 1.375,5.875 1.025,5.875 1.025,5.075 1.375,5.075
  region: 0.575,5.875 0.225,5.875 0.225,5.075 0.575,5.075
  region: -0.225,5.875 -0.575,5.875 -0.575,5.075 -0.225,5.075
  region: -1.025,5.875 -1.375,5.875 -1.375,5.075 -1.025,5.075
  region: -1.825,5.875 -2.175,5.875 -2.175,5.075 -1.825,5.075
  region: -2.625,5.875 -2.975,5.875 -2.975,5.075 -2.625,5.075
  region: -3.425,5.875 -3.775,5.875 -3.775,5.075 -3.425,5.075
  region: -4.225,5.875 -4.575,5.875 -4.575,5.075 -4.225,5.075
  region: -5.025,5.875 -5.375,5.875 -5.375,5.075 -5.025,5.075
  region: -5.825,5.875 -6.175,5.875 -6.175,5.075 -5.825,5.075
  region: -6.625,5.875 -6.975,5.875 -6.975,5.075 -6.625,5.075
  region: -7.425,5.875 -7.775,5.875 -7.775,5.075 -7.425,5.075
  region: -8.225,5.875 -8.575,5.875 -8.575,5.075 -8.225,5.075

## TSOP48 [mil]
pads (48):
  rect 11.81x62.99 smd: 1(-226.38,-377.95) 2(-206.69,-377.95) 3(-187.01,-377.95) 4(-167.32,-377.95) 5(-147.64,-377.95) 6(-127.95,-377.95) 7(-108.27,-377.95) 8(-88.58,-377.95) 9(-68.9,-377.95) 10(-49.21,-377.95) 11(-29.53,-377.95) 12(-9.84,-377.95) 13(9.84,-377.95) 14(29.53,-377.95) 15(49.21,-377.95) 16(68.9,-377.95) 17(88.58,-377.95) 18(108.27,-377.95) 19(127.95,-377.95) 20(147.64,-377.95) 21(167.32,-377.95) 22(187.01,-377.95) 23(206.69,-377.95) 24(226.38,-377.95) 25(226.38,377.95) 26(206.69,377.95) 27(187.01,377.95) 28(167.32,377.95) 29(147.64,377.95) 30(127.95,377.95) 31(108.27,377.95) 32(88.58,377.95) 33(68.9,377.95) 34(49.21,377.95) 35(29.53,377.95) 36(9.84,377.95) 37(-9.84,377.95) 38(-29.53,377.95) 39(-49.21,377.95) 40(-68.9,377.95) 41(-88.58,377.95) 42(-108.27,377.95) 43(-127.95,377.95) 44(-147.64,377.95) 45(-167.32,377.95) 46(-187.01,377.95) 47(-206.69,377.95) 48(-226.38,377.95)
Top Overlay:
  circle w10: c-196.85,-314.96 r19.69
  text "1" at -225.64,-274.8 h49.6
  text "48" at -225.64,296.06 h49.6
Mechanical 16:
  rectangle: -232.28,-397.64 -220.47,-364.17
  rectangle: -212.6,-397.64 -200.79,-364.17
  rectangle: -192.91,-397.64 -181.1,-364.17
  rectangle: -173.23,-397.64 -161.42,-364.17
  rectangle: -153.54,-397.64 -141.73,-364.17
  rectangle: -133.86,-397.64 -122.05,-364.17
  rectangle: -114.17,-397.64 -102.36,-364.17
  rectangle: -94.49,-397.64 -82.68,-364.17
  rectangle: -74.8,-397.64 -62.99,-364.17
  rectangle: -55.12,-397.64 -43.31,-364.17
  rectangle: -35.43,-397.64 -23.62,-364.17
  rectangle: -15.75,-397.64 -3.94,-364.17
  rectangle: 3.94,-397.64 15.75,-364.17
  rectangle: 23.62,-397.64 35.43,-364.17
  rectangle: 43.31,-397.64 55.12,-364.17
  rectangle: 62.99,-397.64 74.8,-364.17
  rectangle: 82.68,-397.64 94.49,-364.17
  rectangle: 102.36,-397.64 114.17,-364.17
  rectangle: 122.05,-397.64 133.86,-364.17
  rectangle: 141.73,-397.64 153.54,-364.17
  rectangle: 161.42,-397.64 173.23,-364.17
  rectangle: 181.1,-397.64 192.91,-364.17
  rectangle: 200.79,-397.64 212.6,-364.17
  rectangle: 220.47,-397.64 232.28,-364.17
  rectangle: 220.47,364.17 232.28,397.64
  rectangle: 200.79,364.17 212.6,397.64
  rectangle: 181.1,364.17 192.91,397.64
  rectangle: 161.42,364.17 173.23,397.64
  rectangle: 141.73,364.17 153.54,397.64
  rectangle: 122.05,364.17 133.86,397.64
  rectangle: 102.36,364.17 114.17,397.64
  rectangle: 82.68,364.17 94.49,397.64
  rectangle: 62.99,364.17 74.8,397.64
  rectangle: 43.31,364.17 55.12,397.64
  rectangle: 23.62,364.17 35.43,397.64
  rectangle: 3.94,364.17 15.75,397.64
  rectangle: -15.75,364.17 -3.94,397.64
  rectangle: -35.43,364.17 -23.62,397.64
  rectangle: -55.12,364.17 -43.31,397.64
  rectangle: -74.8,364.17 -62.99,397.64
  rectangle: -94.49,364.17 -82.68,397.64
  rectangle: -114.17,364.17 -102.36,397.64
  rectangle: -133.86,364.17 -122.05,397.64
  rectangle: -153.54,364.17 -141.73,397.64
  rectangle: -173.23,364.17 -161.42,397.64
  rectangle: -192.91,364.17 -181.1,397.64
  rectangle: -212.6,364.17 -200.79,397.64
  rectangle: -232.28,364.17 -220.47,397.64
  rectangle: -30,16.11 -16,38.11
  rectangle: 16,16.11 30,38.11
  rectangle: 5,-126.89 15,-96.89
  rectangle: -30,13.11 30,28.11
  region: 0,0 10,0 10,10 0,10
  region: 0,0 10,0 10,10 0,10
  region: 0,0 10,0 10,10 0,10
  region: 0,0 10,0 10,10 0,10
  lines w2: -29,37.11 cw(c0,37.11) 29,37.11
  lines w8: -25,37.11 cw(c0,37.11) 25,37.11 ; -236.02,-362.01 236.02,-362.01 236.02,362.01 -236.02,362.01 -236.02,-362.01
  lines w10: -21,37.11 cw(c0,37.11) 21,37.11

## TSOT23-5L [mil]
pads (5):
  rect 23.62x47.24 smd: 1(-37.4,-45.28) 2(0,-45.28) 3(37.4,-45.28) 4(37.4,45.28) 5(-37.4,45.28)
Top Overlay:
  lines w6: -55.98,-31.89 -55.98,31.89 ; -20.55,-31.89 -16.85,-31.89 ; -20.55,31.89 20.55,31.89 ; 16.85,-31.89 20.55,-31.89 ; 55.98,-31.89 55.98,31.89
Top Paste:
  rectangle: -47.74,-67.42 -27.07,-23.13
  rectangle: -10.33,-67.42 10.33,-23.13
  rectangle: 27.07,-67.42 47.74,-23.13
  region: 47.74,67.42 27.07,67.42 27.07,23.13 47.74,23.13
  region: -27.07,67.42 -47.74,67.42 -47.74,23.13 -27.07,23.13
Top Solder:
  rectangle: -50.69,-71.36 -24.11,-19.69
  rectangle: -13.29,-71.36 13.29,-19.69
  rectangle: 24.11,-71.36 50.69,-19.69
  region: 50.69,71.36 24.11,71.36 24.11,19.69 50.69,19.69
  region: -24.11,71.36 -50.69,71.36 -50.69,19.69 -24.11,19.69
Mechanical 16:
  rectangle: -45.28,33.46 -29.53,55.12
  rectangle: 29.53,33.46 45.28,55.12
  region: -29.53,-33.46 -45.28,-33.46 -45.28,-55.12 -29.53,-55.12
  region: 7.87,-33.46 -7.87,-33.46 -7.87,-55.12 7.87,-55.12
  region: 45.28,-33.46 29.53,-33.46 29.53,-55.12 45.28,-55.12
  lines w6: -55.98,-31.89 55.98,-31.89 ; -55.98,31.89 55.98,31.89

## UFQFPN32 [mm]
pads (33):
  rrect100% 0.7x0.3 smd: 1(-2.35,1.75) 2(-2.35,1.25) 3(-2.35,0.75) 4(-2.35,0.25) 5(-2.35,-0.25) 6(-2.35,-0.75) 7(-2.35,-1.25) 8(-2.35,-1.75) 17(2.35,-1.75) 18(2.35,-1.25) 19(2.35,-0.75) 20(2.35,-0.25) 21(2.35,0.25) 22(2.35,0.75) 23(2.35,1.25) 24(2.35,1.75)
  rrect100% 0.3x0.7 smd: 9(-1.75,-2.35) 10(-1.25,-2.35) 11(-0.75,-2.35) 12(-0.25,-2.35) 13(0.25,-2.35) 14(0.75,-2.35) 15(1.25,-2.35) 16(1.75,-2.35) 25(1.75,2.35) 26(1.25,2.35) 27(0.75,2.35) 28(0.25,2.35) 29(-0.25,2.35) 30(-0.75,2.35) 31(-1.25,2.35) 32(-1.75,2.35)
  rrect10% 3.5x3.5 smd: EXP(0,0)
Top Overlay:
  rectangle: -2.45,2 -2,2.45
Top Paste:
  rectangle: -1.5,0.25 -0.25,1.5
  rectangle: 0.25,0.25 1.5,1.5
  rectangle: 0.25,-1.5 1.5,-0.25
  rectangle: -1.5,-1.5 -0.25,-0.25
  lines w0.225: -2.55,-1.75 -2.15,-1.75 ; -2.55,-1.25 -2.15,-1.25 ; -2.55,-0.75 -2.15,-0.75 ; -2.55,-0.25 -2.15,-0.25 ; -2.55,0.25 -2.15,0.25 ; -2.55,0.75 -2.15,0.75 ; -2.55,1.25 -2.15,1.25 ; -2.55,1.75 -2.15,1.75 ; -1.75,-2.55 -1.75,-2.15 ; -1.75,2.15 -1.75,2.55 ; -1.25,-2.55 -1.25,-2.15 ; -1.25,2.15 -1.25,2.55 ; -0.75,-2.55 -0.75,-2.15 ; -0.75,2.15 -0.75,2.55 ; -0.25,-2.55 -0.25,-2.15 ; -0.25,2.15 -0.25,2.55 ; 0.25,-2.55 0.25,-2.15 ; 0.25,2.15 0.25,2.55 ; 0.75,-2.55 0.75,-2.15 ; 0.75,2.15 0.75,2.55 ; 1.25,-2.55 1.25,-2.15 ; 1.25,2.15 1.25,2.55 ; 1.75,-2.55 1.75,-2.15 ; 1.75,2.15 1.75,2.55 ; 2.15,-1.75 2.55,-1.75 ; 2.15,-1.25 2.55,-1.25 ; 2.15,-0.75 2.55,-0.75 ; 2.15,-0.25 2.55,-0.25 ; 2.15,0.25 2.55,0.25 ; 2.15,0.75 2.55,0.75 ; 2.15,1.25 2.55,1.25 ; 2.15,1.75 2.55,1.75
Top Solder:
  region: 0,0 0.254,0 0.254,0.254 0,0.254
  lines w0.35: -2.55,-1.75 -2.15,-1.75 ; -2.55,-1.25 -2.15,-1.25 ; -2.55,-0.75 -2.15,-0.75 ; -2.55,-0.25 -2.15,-0.25 ; -2.55,0.25 -2.15,0.25 ; -2.55,0.75 -2.15,0.75 ; -2.55,1.25 -2.15,1.25 ; -2.55,1.75 -2.15,1.75 ; -1.75,-2.55 -1.75,-2.15 ; -1.75,2.15 -1.75,2.55 ; -1.25,-2.55 -1.25,-2.15 ; -1.25,2.15 -1.25,2.55 ; -0.75,-2.55 -0.75,-2.15 ; -0.75,2.15 -0.75,2.55 ; -0.25,-2.55 -0.25,-2.15 ; -0.25,2.15 -0.25,2.55 ; 0.25,-2.55 0.25,-2.15 ; 0.25,2.15 0.25,2.55 ; 0.75,-2.55 0.75,-2.15 ; 0.75,2.15 0.75,2.55 ; 1.25,-2.55 1.25,-2.15 ; 1.25,2.15 1.25,2.55 ; 1.75,-2.55 1.75,-2.15 ; 1.75,2.15 1.75,2.55 ; 2.15,-1.75 2.55,-1.75 ; 2.15,-1.25 2.55,-1.25 ; 2.15,-0.75 2.55,-0.75 ; 2.15,-0.25 2.55,-0.25 ; 2.15,0.25 2.55,0.25 ; 2.15,0.75 2.55,0.75 ; 2.15,1.25 2.55,1.25 ; 2.15,1.75 2.55,1.75
Mechanical 16:
  rectangle: -2.45,0 0,2.45
  lines w0.203: -2.4,-2.4 2.4,-2.4 2.4,2.4 -2.4,2.4 -2.4,-2.4